# EAGLE library part TSR_1-2450SM (library TSR_1-2450SM)
Switching Regulator 5.0Vout 1A TRACOPOWER Switching Regulator, 6.5 36V dc Input, 5V dc Output, 1A Source: Datasheet <https://www.tracopower.com/products/tsr1sm.pdf>
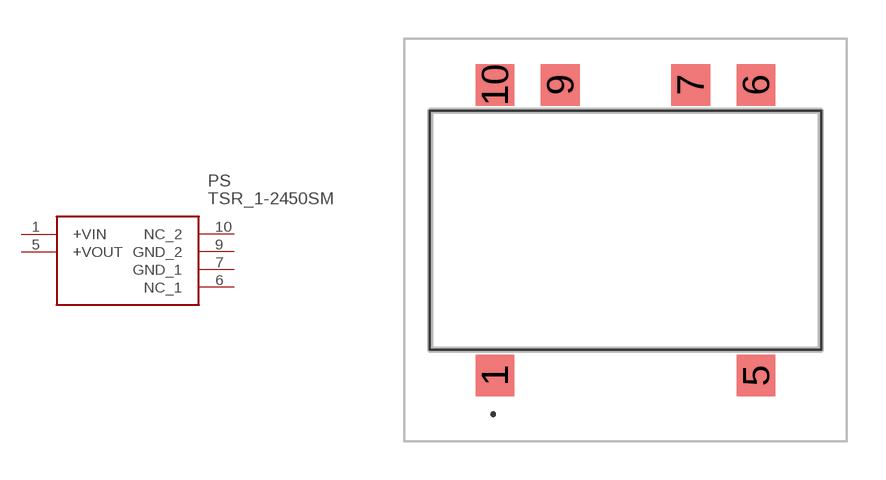
[diagram p0: symbol with the pads of TSR124120SM; footprint TSR124120SM]

Designator prefix PS

## TSR_1-2450SM (ARROW_PART_NUMBER: TSR 1-2450SM; ARROW_PRICE-STOCK: http://www.arrow.com/en/products/tsr1-2450sm/traco-power; DESCRIPTION: Switching Regulator 5.0Vout 1A TRACOPOWER Switching Regulator, 6.5 36V dc Input, 5V dc Output, 1A; HEIGHT: 7.6mm; MANUFACTURER_NAME: Traco Power; MANUFACTURER_PART_NUMBER: TSR 1-2450SM; MOUSER_PART_NUMBER: 495-TSR1-2450SM; MOUSER_PRICE-STOCK: https://www.mouser.co.uk/ProductDetail/TRACO-Power/TSR-1-2450SM?qs=7DKAAOw6jrikgapa5Q3iJg%3D%3D)  [TSR124120SM]
1  +VIN
5  +VOUT
6  NC_1
7  GND_1
9  GND_2
10  NC_2

## Footprint TSR124120SM (pad centres in mm)
TSR 1SM
smd 1.5 x 1.61: 1 -5.08,-5.655; 5 5.08,-5.655; 6 5.08,5.655; 7 2.54,5.655; 9 -2.54,5.655; 10 -5.08,5.655